# EAGLE library part LFXP20E_XXF256 (library lattice)
lfxp20e_fpbga256 edit this description Auto generated by make-symbol-device-package-bsdl.ulp Rev. 20 Source: lfxp20e_fpbga256.bsm
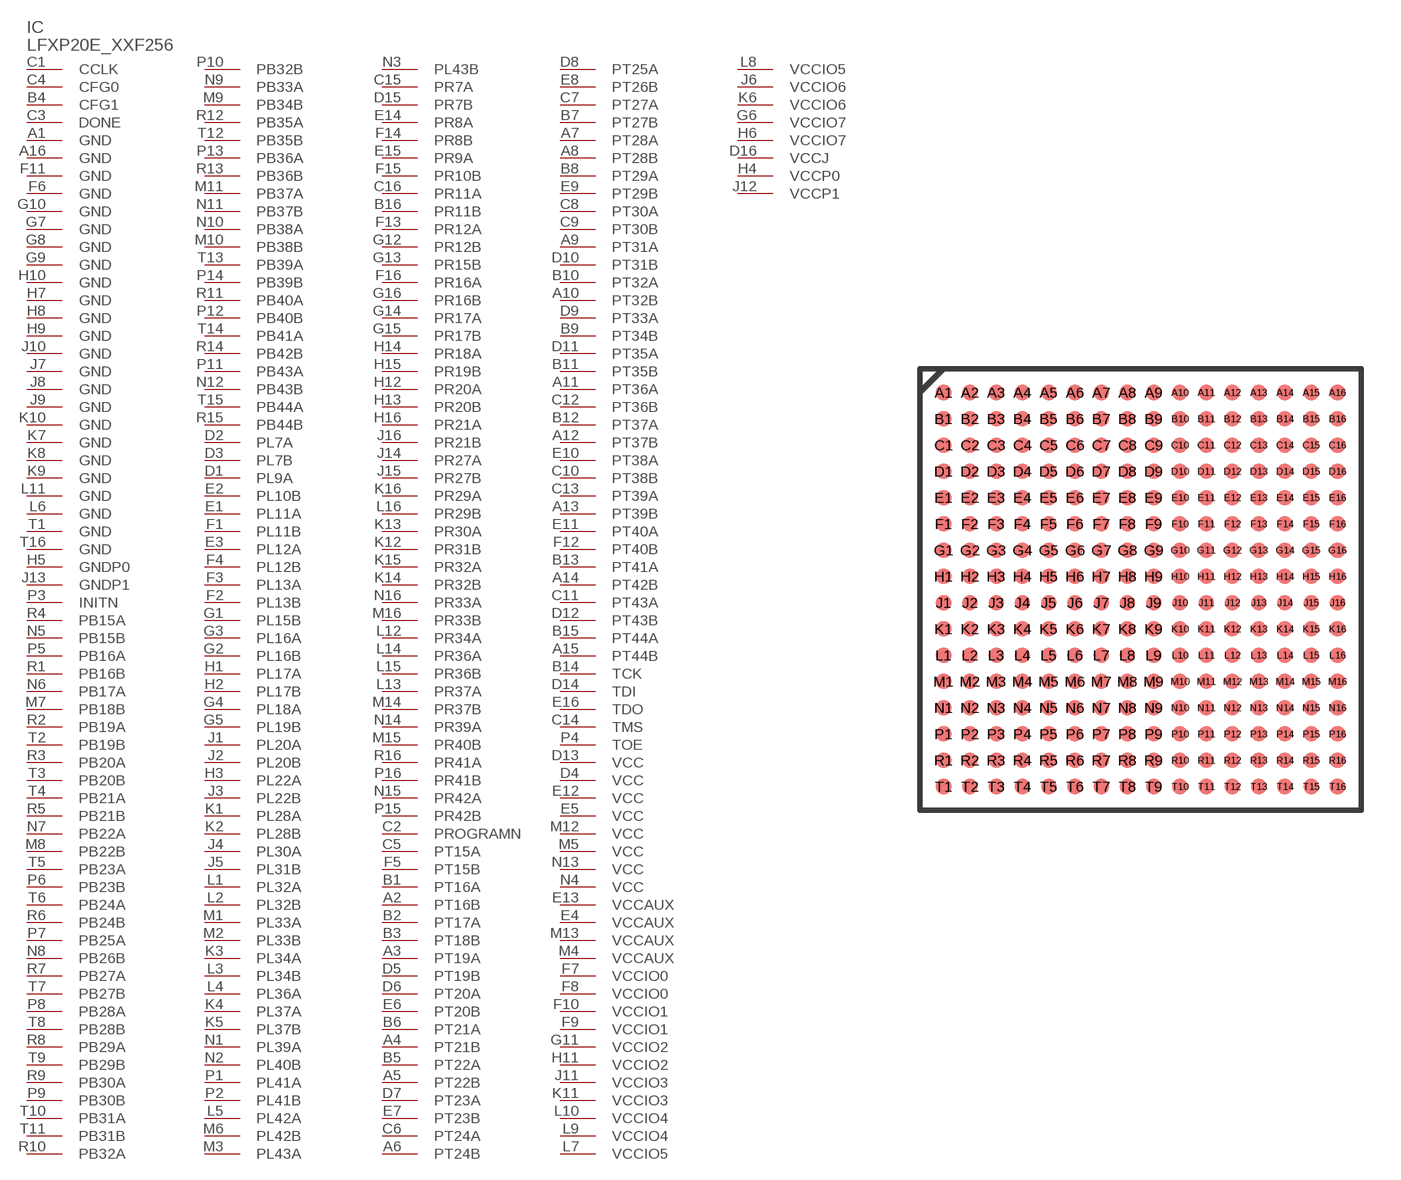
[diagram p17: symbol with the pads of FPBGA_256; footprint FPBGA_256]

Designator prefix IC

## LFXP20E_XXF256 (OC_FARNELL: unknown; OC_NEWARK: unknown)  [FPBGA_256]
A1  GND  pwr
A2  PT16B
A3  PT19A
A4  PT21B
A5  PT22B
A6  PT24B
A7  PT28A
A8  PT28B
A9  PT31A
A10  PT32B
A11  PT36A
A12  PT37B
A13  PT39B
A14  PT42B
A15  PT44B
A16  GND  pwr
B1  PT16A
B2  PT17A
B3  PT18B
B4  CFG1  in
B5  PT22A
B6  PT21A
B7  PT27B
B8  PT29A
B9  PT34B
B10  PT32A
B11  PT35B
B12  PT37A
B13  PT41A
B14  TCK  in
B15  PT44A
B16  PR11B
C1  CCLK
C2  PROGRAMN  in
C3  DONE
C4  CFG0  in
C5  PT15A
C6  PT24A
C7  PT27A
C8  PT30A
C9  PT30B
C10  PT38B
C11  PT43A
C12  PT36B
C13  PT39A
C14  TMS  in
C15  PR7A
C16  PR11A
D1  PL9A
D2  PL7A
D3  PL7B
D4  VCC  pwr
D5  PT19B
D6  PT20A
D7  PT23A
D8  PT25A
D9  PT33A
D10  PT31B
D11  PT35A
D12  PT43B
D13  VCC  pwr
D14  TDI  in
D15  PR7B
D16  VCCJ  pwr
E1  PL11A
E2  PL10B
E3  PL12A
E4  VCCAUX  pwr
E5  VCC  pwr
E6  PT20B
E7  PT23B
E8  PT26B
E9  PT29B
E10  PT38A
E11  PT40A
E12  VCC  pwr
E13  VCCAUX  pwr
E14  PR8A
E15  PR9A
E16  TDO  out
F1  PL11B
F2  PL13B
F3  PL13A
F4  PL12B
F5  PT15B
F6  GND  pwr
F7  VCCIO0  pwr
F8  VCCIO0  pwr
F9  VCCIO1  pwr
F10  VCCIO1  pwr
F11  GND  pwr
F12  PT40B
F13  PR12A
F14  PR8B
F15  PR10B
F16  PR16A
G1  PL15B
G2  PL16B
G3  PL16A
G4  PL18A
G5  PL19B
G6  VCCIO7  pwr
G7  GND  pwr
G8  GND  pwr
G9  GND  pwr
G10  GND  pwr
G11  VCCIO2  pwr
G12  PR12B
G13  PR15B
G14  PR17A
G15  PR17B
G16  PR16B
H1  PL17A
H2  PL17B
H3  PL22A
H4  VCCP0  pwr
H5  GNDP0  pwr
H6  VCCIO7  pwr
H7  GND  pwr
H8  GND  pwr
H9  GND  pwr
H10  GND  pwr
H11  VCCIO2  pwr
H12  PR20A
H13  PR20B
H14  PR18A
H15  PR19B
H16  PR21A
J1  PL20A
J2  PL20B
J3  PL22B
J4  PL30A
J5  PL31B
J6  VCCIO6  pwr
J7  GND  pwr
J8  GND  pwr
J9  GND  pwr
J10  GND  pwr
J11  VCCIO3  pwr
J12  VCCP1  pwr
J13  GNDP1  pwr
J14  PR27A
J15  PR27B
J16  PR21B
K1  PL28A
K2  PL28B
K3  PL34A
K4  PL37A
K5  PL37B
K6  VCCIO6  pwr
K7  GND  pwr
K8  GND  pwr
K9  GND  pwr
K10  GND  pwr
K11  VCCIO3  pwr
K12  PR31B
K13  PR30A
K14  PR32B
K15  PR32A
K16  PR29A
L1  PL32A
L2  PL32B
L3  PL34B
L4  PL36A
L5  PL42A
L6  GND  pwr
L7  VCCIO5  pwr
L8  VCCIO5  pwr
L9  VCCIO4  pwr
L10  VCCIO4  pwr
L11  GND  pwr
L12  PR34A
L13  PR37A
L14  PR36A
L15  PR36B
L16  PR29B
M1  PL33A
M2  PL33B
M3  PL43A
M4  VCCAUX  pwr
M5  VCC  pwr
M6  PL42B
M7  PB18B
M8  PB22B
M9  PB34B
M10  PB38B
M11  PB37A
M12  VCC  pwr
M13  VCCAUX  pwr
M14  PR37B
M15  PR40B
M16  PR33B
N1  PL39A
N2  PL40B
N3  PL43B
N4  VCC  pwr
N5  PB15B
N6  PB17A
N7  PB22A
N8  PB26B
N9  PB33A
N10  PB38A
N11  PB37B
N12  PB43B
N13  VCC  pwr
N14  PR39A
N15  PR42A
N16  PR33A
P1  PL41A
P2  PL41B
P3  INITN
P4  TOE  in
P5  PB16A
P6  PB23B
P7  PB25A
P8  PB28A
P9  PB30B
P10  PB32B
P11  PB43A
P12  PB40B
P13  PB36A
P14  PB39B
P15  PR42B
P16  PR41B
R1  PB16B
R2  PB19A
R3  PB20A
R4  PB15A
R5  PB21B
R6  PB24B
R7  PB27A
R8  PB29A
R9  PB30A
R10  PB32A
R11  PB40A
R12  PB35A
R13  PB36B
R14  PB42B
R15  PB44B
R16  PR41A
T1  GND  pwr
T2  PB19B
T3  PB20B
T4  PB21A
T5  PB23A
T6  PB24A
T7  PB27B
T8  PB28B
T9  PB29B
T10  PB31A
T11  PB31B
T12  PB35B
T13  PB39A
T14  PB41A
T15  PB44A
T16  GND  pwr

## Footprint FPBGA_256 (pad centres in mm)
FPBGA 256 Auto generated by make-symbol-device-package-bsdl.ulp Rev. 19 Source: lfxp6c_fpbga256.bsm; http://www.latticesemi.com/lit/docs/package/pkg.pdf
smd 0.6 x 0.6: A1 -7.5,7.5; A2 -6.5,7.5; A3 -5.5,7.5; A4 -4.5,7.5; A5 -3.5,7.5; A6 -2.5,7.5; A7 -1.5,7.5; A8 -0.5,7.5; A9 0.5,7.5; A10 1.5,7.5; A11 2.5,7.5; A12 3.5,7.5; A13 4.5,7.5; A14 5.5,7.5; A15 6.5,7.5; A16 7.5,7.5; B1 -7.5,6.5; B2 -6.5,6.5; B3 -5.5,6.5; B4 -4.5,6.5; B5 -3.5,6.5; B6 -2.5,6.5; B7 -1.5,6.5; B8 -0.5,6.5; B9 0.5,6.5; B10 1.5,6.5; B11 2.5,6.5; B12 3.5,6.5; B13 4.5,6.5; B14 5.5,6.5; B15 6.5,6.5; B16 7.5,6.5; C1 -7.5,5.5; C2 -6.5,5.5; C3 -5.5,5.5; C4 -4.5,5.5; C5 -3.5,5.5; C6 -2.5,5.5; C7 -1.5,5.5; C8 -0.5,5.5; C9 0.5,5.5; C10 1.5,5.5; C11 2.5,5.5; C12 3.5,5.5; C13 4.5,5.5; C14 5.5,5.5; C15 6.5,5.5; C16 7.5,5.5; D1 -7.5,4.5; D2 -6.5,4.5; D3 -5.5,4.5; D4 -4.5,4.5; D5 -3.5,4.5; D6 -2.5,4.5; D7 -1.5,4.5; D8 -0.5,4.5; D9 0.5,4.5; D10 1.5,4.5; D11 2.5,4.5; D12 3.5,4.5; D13 4.5,4.5; D14 5.5,4.5; D15 6.5,4.5; D16 7.5,4.5; E1 -7.5,3.5; E2 -6.5,3.5; E3 -5.5,3.5; E4 -4.5,3.5; E5 -3.5,3.5; E6 -2.5,3.5; E7 -1.5,3.5; E8 -0.5,3.5; E9 0.5,3.5; E10 1.5,3.5; E11 2.5,3.5; E12 3.5,3.5; E13 4.5,3.5; E14 5.5,3.5; E15 6.5,3.5; E16 7.5,3.5; F1 -7.5,2.5; F2 -6.5,2.5; F3 -5.5,2.5; F4 -4.5,2.5; F5 -3.5,2.5; F6 -2.5,2.5; F7 -1.5,2.5; F8 -0.5,2.5; F9 0.5,2.5; F10 1.5,2.5; F11 2.5,2.5; F12 3.5,2.5; F13 4.5,2.5; F14 5.5,2.5; F15 6.5,2.5; F16 7.5,2.5; G1 -7.5,1.5; G2 -6.5,1.5; G3 -5.5,1.5; G4 -4.5,1.5; G5 -3.5,1.5; G6 -2.5,1.5; G7 -1.5,1.5; G8 -0.5,1.5; G9 0.5,1.5; G10 1.5,1.5; G11 2.5,1.5; G12 3.5,1.5; G13 4.5,1.5; G14 5.5,1.5; G15 6.5,1.5; G16 7.5,1.5; H1 -7.5,0.5; H2 -6.5,0.5; H3 -5.5,0.5; H4 -4.5,0.5; H5 -3.5,0.5; H6 -2.5,0.5; H7 -1.5,0.5; H8 -0.5,0.5; H9 0.5,0.5; H10 1.5,0.5; H11 2.5,0.5; H12 3.5,0.5; H13 4.5,0.5; H14 5.5,0.5; H15 6.5,0.5; H16 7.5,0.5; J1 -7.5,-0.5; J2 -6.5,-0.5; J3 -5.5,-0.5; J4 -4.5,-0.5; J5 -3.5,-0.5; J6 -2.5,-0.5; J7 -1.5,-0.5; J8 -0.5,-0.5; J9 0.5,-0.5; J10 1.5,-0.5; J11 2.5,-0.5; J12 3.5,-0.5; J13 4.5,-0.5; J14 5.5,-0.5; J15 6.5,-0.5; J16 7.5,-0.5; K1 -7.5,-1.5; K2 -6.5,-1.5; K3 -5.5,-1.5; K4 -4.5,-1.5; K5 -3.5,-1.5; K6 -2.5,-1.5; K7 -1.5,-1.5; K8 -0.5,-1.5; K9 0.5,-1.5; K10 1.5,-1.5; K11 2.5,-1.5; K12 3.5,-1.5; K13 4.5,-1.5; K14 5.5,-1.5; K15 6.5,-1.5; K16 7.5,-1.5; L1 -7.5,-2.5; L2 -6.5,-2.5; L3 -5.5,-2.5; L4 -4.5,-2.5; L5 -3.5,-2.5; L6 -2.5,-2.5; L7 -1.5,-2.5; L8 -0.5,-2.5; L9 0.5,-2.5; L10 1.5,-2.5; L11 2.5,-2.5; L12 3.5,-2.5; L13 4.5,-2.5; L14 5.5,-2.5; L15 6.5,-2.5; L16 7.5,-2.5; M1 -7.5,-3.5; M2 -6.5,-3.5; M3 -5.5,-3.5; M4 -4.5,-3.5; M5 -3.5,-3.5; M6 -2.5,-3.5; M7 -1.5,-3.5; M8 -0.5,-3.5; M9 0.5,-3.5; M10 1.5,-3.5; M11 2.5,-3.5; M12 3.5,-3.5; M13 4.5,-3.5; M14 5.5,-3.5; M15 6.5,-3.5; M16 7.5,-3.5; N1 -7.5,-4.5; N2 -6.5,-4.5; N3 -5.5,-4.5; N4 -4.5,-4.5; N5 -3.5,-4.5; N6 -2.5,-4.5; N7 -1.5,-4.5; N8 -0.5,-4.5; N9 0.5,-4.5; N10 1.5,-4.5; N11 2.5,-4.5; N12 3.5,-4.5; N13 4.5,-4.5; N14 5.5,-4.5; N15 6.5,-4.5; N16 7.5,-4.5; P1 -7.5,-5.5; P2 -6.5,-5.5; P3 -5.5,-5.5; P4 -4.5,-5.5; P5 -3.5,-5.5; P6 -2.5,-5.5; P7 -1.5,-5.5; P8 -0.5,-5.5; P9 0.5,-5.5; P10 1.5,-5.5; P11 2.5,-5.5; P12 3.5,-5.5; P13 4.5,-5.5; P14 5.5,-5.5; P15 6.5,-5.5; P16 7.5,-5.5; R1 -7.5,-6.5; R2 -6.5,-6.5; R3 -5.5,-6.5; R4 -4.5,-6.5; R5 -3.5,-6.5; R6 -2.5,-6.5; R7 -1.5,-6.5; R8 -0.5,-6.5; R9 0.5,-6.5; R10 1.5,-6.5; R11 2.5,-6.5; R12 3.5,-6.5; R13 4.5,-6.5; R14 5.5,-6.5; R15 6.5,-6.5; R16 7.5,-6.5; T1 -7.5,-7.5; T2 -6.5,-7.5; T3 -5.5,-7.5; T4 -4.5,-7.5; T5 -3.5,-7.5; T6 -2.5,-7.5; T7 -1.5,-7.5; T8 -0.5,-7.5; T9 0.5,-7.5; T10 1.5,-7.5; T11 2.5,-7.5; T12 3.5,-7.5; T13 4.5,-7.5; T14 5.5,-7.5; T15 6.5,-7.5; T16 7.5,-7.5